# EAGLE library part NRF24 (library Wireless_Antennas)
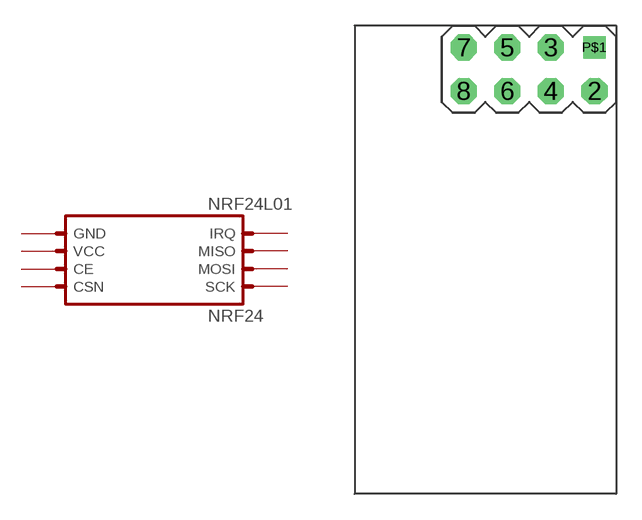
[diagram p0: symbol with the pads of NRF24; footprint NRF24]

Designator prefix NRF24L01

## NRF24  [NRF24]
2  VCC  pwr
3  CE
4  CSN
5  SCK
6  MOSI
7  MISO
8  IRQ
P$1  GND  pwr

## Footprint NRF24 (pad centres in mm)
drill 1.016 octagon: 2 0,-2.54; 3 -2.54,0; 4 -2.54,-2.54; 5 -5.08,0; 6 -5.08,-2.54; 7 -7.62,0; 8 -7.62,-2.54
drill 0.8 square: P$1 0,0